# Altium footprint library Orion Sleep - Control Board - Rev 2.PcbLib: 102 footprints (part 6 of 7)
Each footprint in its own frame and in the unit in brackets; x right, y up, seen from the top. Pads: shape width x height; smd on the part's side, far side on the other; paste and mask are expansions set on the pad; w line width, h text height; cw(c..) or ccw(c..) is an arc to the next point about the centre after c.
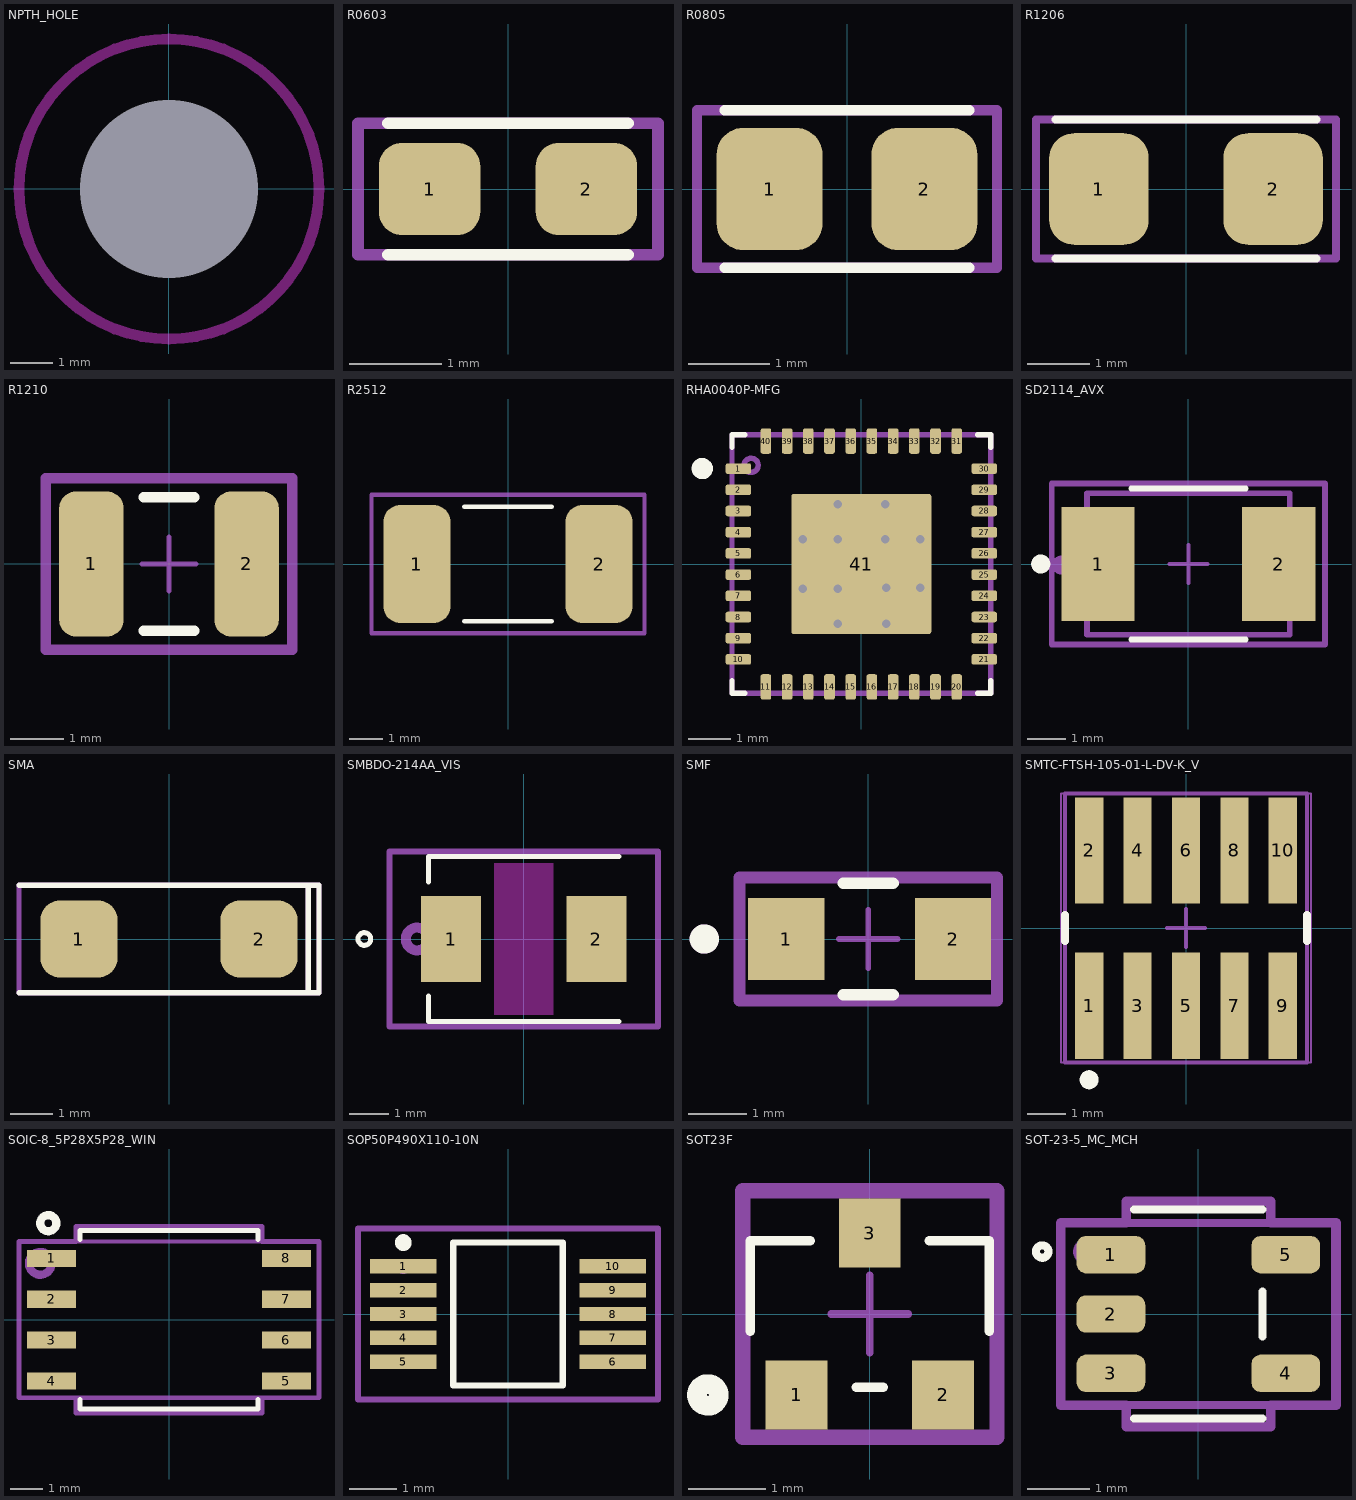
[diagram p5: the footprints below, top view; thin cyan lines are the x and y axes]

## NPTH_HOLE [mm] "4.2 MM NPTH HOLE"
pads (1):
  round 0 hole 4.2 unplated mask+0.102: 1(0,0)
Keep-Out Layer:
  circle w0.254: c0,0 r3.536

## R0603 [mm] "Chip Resistor; Body 1.6 x 0.9 mm (LxW typ)"
height 0.45
pads (2):
  rrect50% 1.1x1 smd: 1(-0.85,0) 2(0.85,0)
Top Overlay:
  lines w0.127: -1.3,-0.711 1.3,-0.711 ; -1.3,0.711 1.3,0.711
Top Assembly:
  lines w0.127: -1.626,-0.711 -1.626,0.711 1.626,0.711 1.626,-0.711 -1.626,-0.711
  text ".Designator" at -2.539,-0.169 h0.51
3D body "RES0603.STEP": height 0.46, standoff 0.01, extent -0.775,-0.43 0.775,0.43

## R0805 [mm] "Chip Resistor; Body 2 x 1.2 mm (LxW typ)"
height 0.6
pads (2):
  rrect50% 1.3x1.5 smd: 1(-0.95,0) 2(0.95,0)
Top Overlay:
  lines w0.127: -1.5,-0.965 1.5,-0.965 ; -1.5,0.965 1.5,0.965
Top Assembly:
  lines w0.127: -1.84,-0.965 1.84,-0.965 1.84,0.965 -1.84,0.965 -1.84,-0.965
  text ".Designator" at -4.063,-0.271 h0.81
3D body "RES0805.STEP": height 0.46, standoff 0.01, extent -1,-0.63 1,0.63

## R1206 [mm] "Chip Resistor; Body 3.1 x 1.6 mm (LxW typ)"
height 0.6
pads (2):
  rrect50% 1.6x1.8 smd: 1(-1.4,0) 2(1.4,0)
Top Overlay:
  lines w0.127: -2.1,-1.118 2.1,-1.118 ; -2.1,1.118 2.1,1.118
Top Assembly:
  lines w0.127: -2.413,-1.118 2.413,-1.118 2.413,1.118 -2.413,1.118 -2.413,-1.118
  text ".Designator" at -4.063,-0.271 h0.81
3D body "R_1206_3216Metric.step": height 0.55, standoff 0, extent -1.6,-0.8 1.6,0.8

## R1210 [mm]
pads (2):
  rrect50% 1.205x2.706 smd: 1(-1.451,0) 2(1.451,0)
Top Overlay:
  lines w0.2: -0.473,-1.25 0.473,-1.25 ; -0.473,1.25 0.473,1.25
Top Assembly:
  lines w0.127: -2.303,-1.603 2.303,-1.603 2.303,1.603 -2.303,1.603 -2.303,-1.603
  text ".Designator" at -4.998,-0.333 h1
Top Courtyard:
  lines w0.2: -2.303,-1.603 2.303,-1.603 2.303,1.603 -2.303,1.603 -2.303,-1.603
Top Component Center:
  lines w0.1: -0.5,0 0.5,0 ; 0,-0.5 0,0.5
3D body "Res_Vishay_CRCW12104K70FKEC_eec.STEP": height 0.6, standoff 0, extent -1.6,-1.25 1.6,1.25

## R2512 [mm] "Chip Resistor; Body 6.4 x 3.2 mm (LxW typ)"
height 0.6
pads (2):
  rrect50% 2x3.5 smd: 1(-2.7,0) 2(2.7,0)
Top Overlay:
  lines w0.127: -1.3,-1.7 1.3,-1.7 ; -1.3,1.7 1.3,1.7
Top Assembly:
  lines w0.127: -4.052,-2.052 4.052,-2.052 ; -4.052,-2.002 -4.052,2.002 ; -4.052,2.052 4.052,2.052 ; 4.052,-2.002 4.052,2.002
  text ".Designator" at -4.063,-0.271 h0.81
3D body "CircuitWorks-RESISTOR 2512.step": height 0.58, standoff -0.03, extent -3.175,-1.63 3.175,1.63

## RHA0040P-MFG [mm]
pads (41):
  rrect40% 0.6x0.25 smd mask+0: 1(-2.9,2.25) 2(-2.9,1.75) 3(-2.9,1.25) 4(-2.9,0.75) 5(-2.9,0.25) 6(-2.9,-0.25) 7(-2.9,-0.75) 8(-2.9,-1.25) 9(-2.9,-1.75) 10(-2.9,-2.25) 21(2.9,-2.25) 22(2.9,-1.75) 23(2.9,-1.25) 24(2.9,-0.75) 25(2.9,-0.25) 26(2.9,0.25) 27(2.9,0.75) 28(2.9,1.25) 29(2.9,1.75) 30(2.9,2.25)
  rrect40% 0.25x0.6 smd paste+0 mask+0: 11(-2.25,-2.9) 12(-1.75,-2.9) 13(-1.25,-2.9) 14(-0.75,-2.9) 15(-0.25,-2.9) 16(0.25,-2.9) 17(0.75,-2.9) 18(1.25,-2.9) 19(1.75,-2.9) 20(2.25,-2.9) 31(2.25,2.9) 32(1.75,2.9) 33(1.25,2.9) 34(0.75,2.9) 35(0.25,2.9) 36(-0.25,2.9) 37(-0.75,2.9) 38(-1.25,2.9) 39(-1.75,2.9) 40(-2.25,2.9)
  rrect3% 3.3x3.3 smd paste-1000 mask+0: 41(0,0)
via -0.56,-1.408 diameter 0.45 hole 0.2
via 0.583,-1.408 diameter 0.45 hole 0.2
via -0.56,0.583 diameter 0.45 hole 0.2
via 0.56,0.583 diameter 0.45 hole 0.2
via -0.56,-0.583 diameter 0.45 hole 0.2
via 0.583,-0.56 diameter 0.45 hole 0.2
via 1.385,0.583 diameter 0.45 hole 0.2
via 1.385,-0.56 diameter 0.45 hole 0.2
via -1.385,-0.583 diameter 0.45 hole 0.2
via -1.385,0.583 diameter 0.45 hole 0.2
via -0.56,1.408 diameter 0.45 hole 0.2
via 0.56,1.408 diameter 0.45 hole 0.2
Top Overlay:
  circle w0.25: c-3.75,2.25 r0.125
  lines w0.127: -3.05,-2.75 -3.05,-3.05 -2.75,-3.05 ; -3.05,2.75 -3.05,3.05 -2.75,3.05 ; 2.75,-3.05 3.05,-3.05 3.05,-2.75 ; 2.75,3.05 3.05,3.05 3.05,2.75
Top Paste:
  drawing of 9 lines, arcs and shapes, not listed
Top Assembly:
  circle w0.127: c-2.6,2.326 r0.167
  lines w0.127: -3.05,-3.05 3.05,-3.05 3.05,3.05 -3.05,3.05 -3.05,-3.05
  text ".Designator" at -4.998,-0.333 h1
3D body "IC_LM51772RHAR_VQFN40.STEP": height 1, standoff 0, extent -3,-3 3,3

## SD2114_AVX [mil]
pads (2):
  rect 75.5x118 smd: 1(-93.25,0) 2(93.25,0)
Top Overlay:
  circle w9.84: c-152.32,0 r4.92
  lines w6: -59.06,-78 59.06,-78 ; -59.06,78 59.06,78
Top Assembly:
  circle w9.84: c-131,-1.17 r4.92
  lines w5.98: -104.5,-73 -104.5,73 104.5,73 104.5,-73 -104.5,-73
  text ".Designator" at -196.79,-13.12 h39.37
Top Courtyard:
  lines w6: -141,-83 -114.5,-83 114.5,-83 141,-83 141,83 114.5,83 -114.5,83 -141,83 -141,-83
Top Component Center:
  lines w3.94: -19.69,0 19.68,0 ; 0,-19.69 0,19.68
3D body "SD2114_AVX.step": height 47.01, standoff 0, extent -104.49,-73.11 104.49,73.11

## SMA [mm] "DO-214AC"
height 2.3
pads (2):
  rrect50% 1.8x1.8 smd: 1(-2.1,0) 2(2.1,0)
Top Overlay:
  lines w0.127: -3.5,-1.25 3.5,-1.25 ; -3.5,1.25 3.5,1.25 3.5,-1.243 ; 3.25,-1.25 3.25,1.249
Top Assembly:
  lines w0.127: 3.25,-1.25 3.25,1.249 ; -3.5,-1.25 -3.5,1.25 3.5,1.25 3.5,-1.25 -3.5,-1.25
  text ".Designator" at -4.998,-0.333 h1
3D body "SMAJ24A.step": height 2.51, standoff 0.01, extent -2.57,-1.28 2.57,1.28

## SMBDO-214AA_VIS [mm] "Surface Mount DO-214AA (SMB)"
height 2.44
pads (2):
  rect 1.52x2.18 smd: 1(-1.84,0) 2(1.84,0)
Top Layer keep-out:
  region: -0.75,-1.918 -0.75,1.918 0.75,1.918 0.75,-1.918
Top Overlay:
  circle w0.127: c-4.039,0 r0.161
  lines w0.127: -2.413,-1.45 -2.413,-2.095 2.413,-2.095 ; -2.413,1.45 -2.413,2.095 2.413,2.095
Top Assembly:
  circle w0.254: c-2.699,0 r0.29
  lines w0.127: -3.404,-2.222 3.404,-2.222 3.404,2.222 -3.404,2.222 -3.404,-2.222
  text ".Designator" at -7.618,-0.508 h1.52
Top Courtyard:
  lines w0.152: -3.404,-2.222 -3.404,2.222 3.404,2.222 3.404,-2.222 -3.404,-2.222
3D body "5BT.STEP": height 2.44, standoff 0, extent -2.699,-1.81 2.699,1.81

## SMF [mm]
pads (2):
  rect 1.3x1.4 smd: 1(-1.4,0) 2(1.45,0)
Top Overlay:
  circle w0.25: c-2.8,0 r0.125
  lines w0.2: -0.425,-0.95 0.425,-0.95 ; -0.425,0.95 0.425,0.95
Top Assembly:
  circle w0.25: c-2.8,0 r0.125
  lines w0.127: -2.2,-1.05 2.2,-1.05 2.2,1.05 -2.2,1.05 -2.2,-1.05
  text ".Designator" at -4.998,-0.333 h1
Top Courtyard:
  lines w0.2: -2.2,-1.05 2.2,-1.05 2.2,1.05 -2.2,1.05 -2.2,-1.05
Top Component Center:
  lines w0.1: -0.5,0 0.5,0 ; 0,-0.5 0,0.5
3D body "Diode_Vishay_SMF5V0A-E3-08_eec.STEP": height 1.08, standoff 0, extent -1.85,-0.899 1.85,0.899

## SMTC-FTSH-105-01-L-DV-K_V [mm] "CONN, 10-Leads, Body 6.35x3.43mm, Pitch 1.27mm"
height 6.25
pads (10):
  rect 0.74x2.79 smd: 1(-2.54,-2.035) 2(-2.54,2.035) 3(-1.27,-2.035) 4(-1.27,2.035) 5(0,-2.035) 6(0,2.035) 7(1.27,-2.035) 8(1.27,2.035) 9(2.54,-2.035) 10(2.54,2.035)
Top Overlay:
  circle w0.25: c-2.54,-3.98 r0.125
  lines w0.2: -3.175,-0.341 -3.175,0.341 ; 3.175,-0.341 3.175,0.341
Top Assembly:
  circle w0.127: c-2.54,-2.035 r0.156
  lines w0.1: -3.175,-3.53 -3.175,3.53 3.175,3.53 3.175,-3.53 -3.175,-3.53
  text ".Designator" at -4.998,-0.333 h1
Top Courtyard:
  lines w0.05: -3.275,-3.53 -3.275,3.53 3.275,3.53 3.275,-3.53 -3.275,-3.53
  lines w0.1: -0.5,0 0.5,0 ; 0,-0.5 0,0.5
3D body "FTSH-105-01-L-DV-K.stp": height 6.12, standoff 0, extent -3.175,-2.921 3.175,2.921

## SOIC-8_5P28X5P28_WIN [mil] "8-Pin SOIC 208-mil (Package Code SS)"
height 76.77
pads (8):
  rect 60x21 smd: 1(-143.5,75) 2(-143.5,25) 3(-143.5,-25) 4(-143.5,-75) 5(143.5,-75) 6(143.5,-25) 7(143.5,25) 8(143.5,75)
Top Overlay:
  circle w10: c-147.64,118.11 r9.84
  lines w6: -109,-97.8 -109,-109 109,-109 109,-97.8 ; -109,97.8 -109,109 109,109 109,97.8
Top Assembly:
  circle w10: c-157.48,68.9 r13.92
  lines w5: -183.5,-95.5 -183.5,95.5 183.5,95.5 183.5,-95.5 -183.5,-95.5
  text ".Designator" at -299.9,-19.99 h60
Top Courtyard:
  lines w6: -183.5,-95.5 -114,-95.5 -114,-114 114,-114 114,-95.5 183.5,-95.5 183.5,95.5 114,95.5 114,114 -114,114 -114,95.5 -183.5,95.5 -183.5,-95.5
3D body "SOIC-8_5P28X5P28_WIN.step": height 85.12, standoff 0, extent -159.49,-104.02 159.49,104.02

## SOP50P490X110-10N [mm]
pads (10):
  rect 1.4x0.3 smd mask+0.04: 1(-2.2,1) 2(-2.2,0.5) 3(-2.2,0) 4(-2.2,-0.5) 5(-2.2,-1) 6(2.2,-1) 7(2.2,-0.5) 8(2.2,0) 9(2.2,0.5) 10(2.2,1)
Top Overlay:
  circle w0.25: c-2.2,1.5 r0.051
  lines w0.127: -1.15,-1.5 1.15,-1.5 1.15,1.5 -1.15,1.5 -1.15,-1.5
Top Assembly:
  circle w0.127: c-2.2,1 r0.095
  lines w0.127: -3.15,-1.8 3.15,-1.8 3.15,1.8 -3.15,1.8 -3.15,-1.8
  text ".Designator" at -7.618,-0.508 h1.52
3D body "THVD1452DGSR.stp": height 1.1, standoff 0, extent -2.463,-1.5 2.463,1.5

## SOT23F [mm]
pads (3):
  rect 0.8x0.9 smd: 1(-0.95,-1.05) 2(0.95,-1.05) 3(0,1.05)
Top Overlay:
  circle w0.254: c-2.1,-1.05 r0.141
  lines w0.127: -1.55,-0.225 -1.55,0.95 -0.775,0.95 ; -0.175,-0.95 0.175,-0.95 ; 0.775,0.95 1.55,0.95 1.55,-0.225
Top Assembly:
  lines w0.127: -1.65,-1.6 1.65,-1.6 1.65,1.6 -1.65,1.6 -1.65,-1.6
  text ".Designator" at -4.998,-0.333 h1
Top Courtyard:
  lines w0.2: -1.65,-1.6 1.65,-1.6 1.65,1.6 -1.65,1.6 -1.65,-1.6
Top Component Center:
  lines w0.1: -0.5,0 0.5,0 ; 0,-0.5 0,0.5
3D body "Trans_Toshiba_SSM3K341R_LF_eec.STEP": height 0.88, standoff 0, extent -1.45,-1.2 1.45,1.2

## SOT-23-5_MC_MCH [mm] "5-Lead Plastic Small Outline Transistor (OT) [SOT-23] MICROCHIP"
height 1.45
pads (5):
  rrect50% 1.1x0.6 smd paste+0 mask+0: 1(-1.4,0.95) 2(-1.4,0) 3(-1.4,-0.95) 4(1.4,-0.95) 5(1.4,0.95)
Top Overlay:
  circle w0.127: c-2.5,1 r0.1
  lines w0.127: -1.029,-1.676 1.029,-1.676 ; -1.029,1.676 1.029,1.676 ; 1.029,-0.363 1.029,0.363
Top Assembly:
  circle w0.127: c-1.8,1 r0.141
  lines w0.127: -2.204,-1.458 2.204,-1.458 2.204,1.458 -2.204,1.458 -2.204,-1.458
  text ".Designator" at -4.998,-0.333 h1
Top Courtyard:
  lines w0.152: -2.204,-1.458 -2.204,1.458 -1.156,1.458 -1.156,1.803 1.156,1.803 1.156,1.458 2.204,1.458 2.204,-1.458 1.156,-1.458 1.156,-1.803 -1.156,-1.803 -1.156,-1.458 -2.204,-1.458
3D body "SOT-23-5_MC_MCH.step": height 1.45, standoff 0, extent -1.6,-1.549 1.6,1.549